# Altium footprint library TK40A10N1.PCBLIB: 1 footprints
Each footprint in its own frame and in the unit in brackets; x right, y up, seen from the top. Pads: shape width x height; smd on the part's side, far side on the other; paste and mask are expansions set on the pad; w line width, h text height; cw(c..) or ccw(c..) is an arc to the next point about the centre after c.
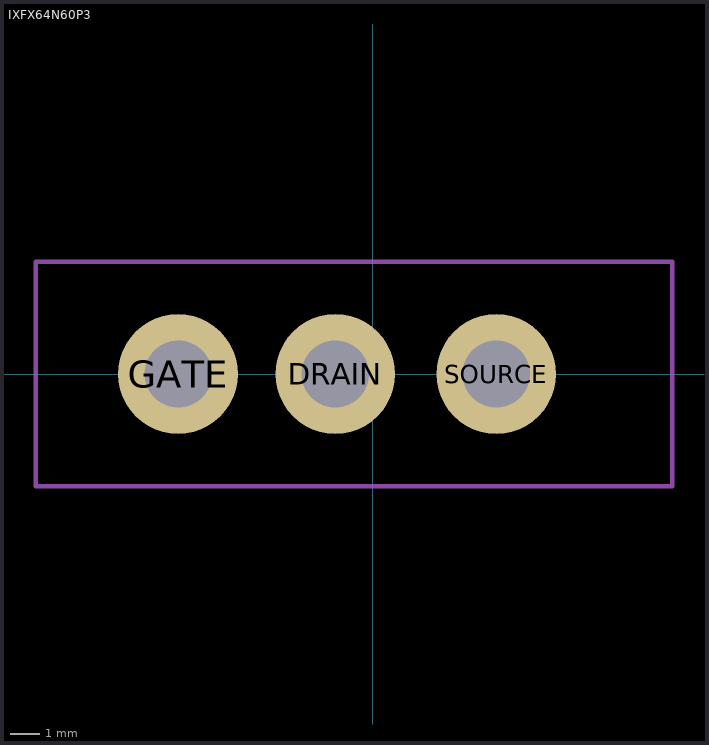
[diagram p0: the footprint, top view; thin cyan lines are the x and y axes]

## IXFX64N60P3 [mil]
pads (3):
  round 160 hole 90: DRAIN(-50,0) GATE(-260,0) SOURCE(165,0)
tPlace:
  lines w6: -450,-150 400,-150 400,150 -450,150 -450,-150